# Altium footprint library PCB - CONNECTOR - HARWIN - HARWIN M20-9961245.PcbLib: 1 footprints
Each footprint in its own frame and in the unit in brackets; x right, y up, seen from the top. Pads: shape width x height; smd on the part's side, far side on the other; paste and mask are expansions set on the pad; w line width, h text height; cw(c..) or ccw(c..) is an arc to the next point about the centre after c.
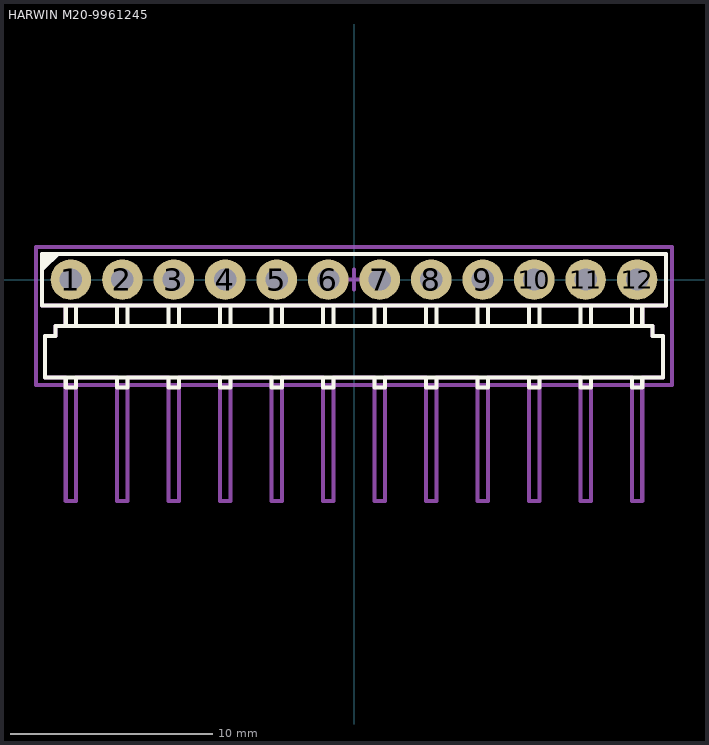
[diagram p0: the footprint, top view; thin cyan lines are the x and y axes]

## HARWIN M20-9961245 [mm] "2.54mm DIL PC TAIL PIN HEADER ASSEMBLY"
height 2.54
pads (12):
  round 2 hole 1.1: 1(-13.97,0) 2(-11.43,0) 3(-8.89,0) 4(-6.35,0) 5(-3.81,0) 6(-1.27,0) 7(1.27,0) 8(3.81,0) 9(6.35,0) 10(8.89,0) 11(11.43,0) 12(13.97,0)
Top Overlay:
  region: -15.35,1.3 -15.35,0.4 -14.45,1.3
  lines w0.2: -15.4,1.27 -15.4,-1.27 15.4,-1.27 15.4,1.27 -15.35,1.27 ; -14.224,-4.826 -14.224,-5.334 -13.716,-5.334 -13.716,-4.826 ; -14.224,-2.286 -14.224,-1.27 ; -13.716,-2.286 -13.716,-1.27 ; -11.684,-4.826 -11.684,-5.334 -11.176,-5.334 -11.176,-4.826 ; -11.684,-2.286 -11.684,-1.27 ; -11.176,-2.286 -11.176,-1.27 ; -9.144,-4.826 -9.144,-5.334 -8.636,-5.334 -8.636,-4.826 ; -9.144,-2.286 -9.144,-1.27 ; -8.636,-2.286 -8.636,-1.27 ; -6.604,-4.826 -6.604,-5.334 -6.096,-5.334 -6.096,-4.826 ; -6.604,-2.286 -6.604,-1.27 ; -6.096,-2.286 -6.096,-1.27 ; -4.064,-4.826 -4.064,-5.334 -3.556,-5.334 -3.556,-4.826 ; -4.064,-2.286 -4.064,-1.27 ; -3.556,-2.286 -3.556,-1.27 ; -1.524,-4.826 -1.524,-5.334 -1.016,-5.334 -1.016,-4.826 ; -1.524,-2.286 -1.524,-1.27 ; -1.016,-2.286 -1.016,-1.27 ; 1.016,-4.826 1.016,-5.334 1.524,-5.334 1.524,-4.826 ; 1.016,-2.286 1.016,-1.27 ; 1.524,-2.286 1.524,-1.27 ; 3.556,-4.826 3.556,-5.334 4.064,-5.334 4.064,-4.826 ; 3.556,-2.286 3.556,-1.27 ; 4.064,-2.286 4.064,-1.27 ; 6.096,-4.826 6.096,-5.334 6.604,-5.334 6.604,-4.826 ; 6.096,-2.286 6.096,-1.27 ; 6.604,-2.286 6.604,-1.27 ; 8.636,-4.826 8.636,-5.334 9.144,-5.334 9.144,-4.826 ; 8.636,-2.286 8.636,-1.27 ; 9.144,-2.286 9.144,-1.27 ; 11.176,-4.826 11.176,-5.334 11.684,-5.334 11.684,-4.826 ; 11.176,-2.286 11.176,-1.27 ; 11.684,-2.286 11.684,-1.27 ; 13.716,-4.826 13.716,-5.334 14.224,-5.334 14.224,-4.826 ; 13.716,-2.286 13.716,-1.27 ; 14.224,-2.286 14.224,-1.27 ; -15.24,-4.826 15.24,-4.826 15.24,-2.794 14.732,-2.794 14.732,-2.286 -14.732,-2.286 -14.732,-2.794 -15.24,-2.794 -15.24,-4.826
Top Assembly:
  lines w0.2: -14.224,-1.27 -14.224,-2.286 -14.732,-2.286 -14.732,-2.794 -15.24,-2.794 -15.24,-4.826 -14.224,-4.826 -14.224,-10.922 -13.716,-10.922 -13.716,-4.826 -11.684,-4.826 -11.684,-10.922 -11.176,-10.922 -11.176,-4.826 -9.144,-4.826 -9.144,-10.922 -8.636,-10.922 -8.636,-4.826 -6.604,-4.826 -6.604,-10.922 -6.096,-10.922 -6.096,-4.826 -4.064,-4.826 -4.064,-10.922 -3.556,-10.922 -3.556,-4.826 -1.524,-4.826 -1.524,-10.922 -1.016,-10.922 -1.016,-4.826 1.016,-4.826 1.016,-10.922 1.524,-10.922 1.524,-4.826 3.556,-4.826 3.556,-10.922 4.064,-10.922 4.064,-4.826 6.096,-4.826 6.096,-10.922 6.604,-10.922 6.604,-4.826 8.636,-4.826 8.636,-10.922 9.144,-10.922 9.144,-4.826 11.176,-4.826 11.176,-10.922 11.684,-10.922 11.684,-4.826 13.716,-4.826 13.716,-10.922 14.224,-10.922 14.224,-4.826 15.24,-4.826 15.24,-2.794 14.732,-2.794 14.732,-2.286 14.224,-2.286 14.224,-1.27 ; -0.5,0 0.5,0 ; 0,-0.5 0,0.5 ; -15.4,-1.27 15.4,-1.27 15.4,1.27 -15.4,1.27 -15.4,-1.27
Top Courtyard (Mech15):
  lines w0.2: -15.7,-5.2 -15.7,1.6 15.7,1.6 15.7,-5.2 -15.7,-5.2
3D body "HARWIN M20-9961245.step": height 2.54, standoff -3, extent -15.24,-10.9 15.24,0.32